# EAGLE library part ATMEGA48/88/168/328PA (library PiezoFFC)
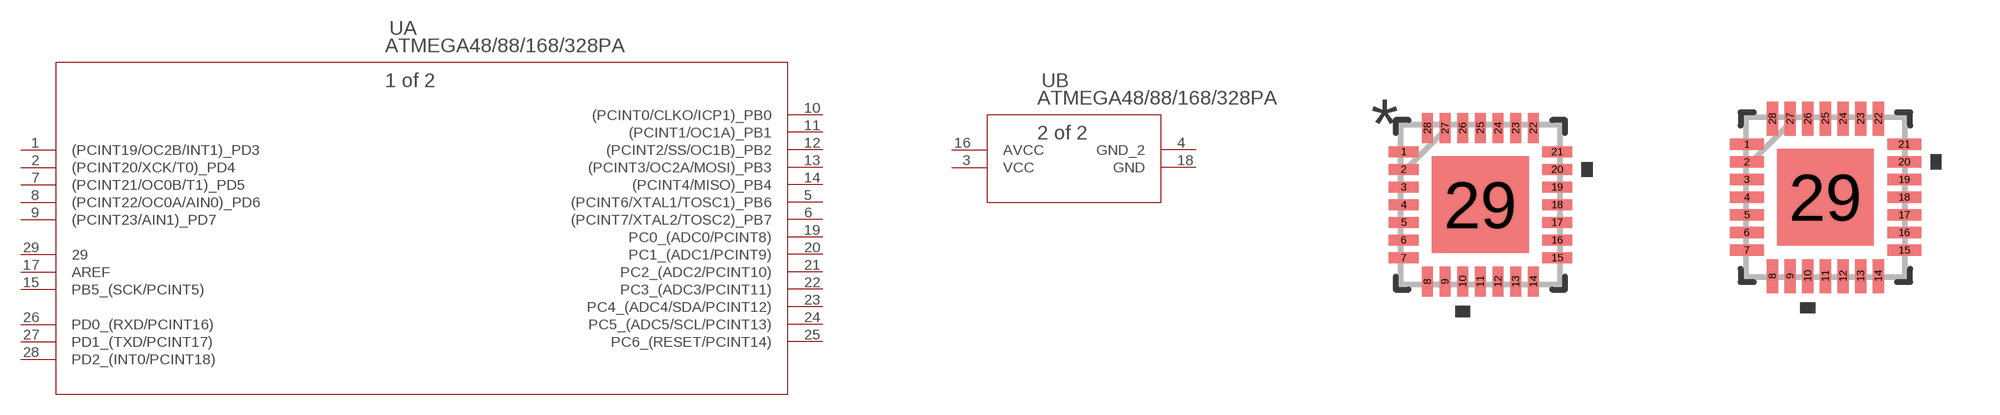
[diagram p22: symbol with the pads of 28M1; footprints 28M1, 28M1-M]

Designator prefix U; gates A=ATMEGA48PA-MMHR B=ATMEGA48PA-MMHR_A

## ATMEGA48/88/168/328PA (MANUFACTURER_PART_NUMBER: ATMEGA48PAMMHR; VENDOR: Atmel)  [28M1]
1  A:(PCINT19/OC2B/INT1)_PD3
2  A:(PCINT20/XCK/T0)_PD4
3  B:VCC  pwr
4  B:GND_2  pwr
5  A:(PCINT6/XTAL1/TOSC1)_PB6
6  A:(PCINT7/XTAL2/TOSC2)_PB7
7  A:(PCINT21/OC0B/T1)_PD5
8  A:(PCINT22/OC0A/AIN0)_PD6
9  A:(PCINT23/AIN1)_PD7
10  A:(PCINT0/CLKO/ICP1)_PB0
11  A:(PCINT1/OC1A)_PB1
12  A:(PCINT2/SS/OC1B)_PB2
13  A:(PCINT3/OC2A/MOSI)_PB3
14  A:(PCINT4/MISO)_PB4
15  A:PB5_(SCK/PCINT5)
16  B:AVCC  pwr
17  A:AREF  pas
18  B:GND  pwr
19  A:PC0_(ADC0/PCINT8)
20  A:PC1_(ADC1/PCINT9)
21  A:PC2_(ADC2/PCINT10)
22  A:PC3_(ADC3/PCINT11)
23  A:PC4_(ADC4/SDA/PCINT12)
24  A:PC5_(ADC5/SCL/PCINT13)
25  A:PC6_(RESET/PCINT14)
26  A:PD0_(RXD/PCINT16)
27  A:PD1_(TXD/PCINT17)
28  A:PD2_(INT0/PCINT18)
29  A:29  pas

## ATMEGA48/88/168/328PA28M1-M (MANUFACTURER_PART_NUMBER: ATMEGA48PAMMHR; VENDOR: Atmel)  [28M1-M]
Pads as for 28M1

## ATMEGA48/88/168/328PA28M1-L (MANUFACTURER_PART_NUMBER: ATMEGA48PAMMHR; VENDOR: Atmel)  [28M1-L]
Pads as for 28M1

## Footprint 28M1 (pad centres in mm)
smd 0.762 x 0.279: 1 -1.956,1.35; 2 -1.956,0.9; 3 -1.956,0.45; 4 -1.956,0; 5 -1.956,-0.45; 6 -1.956,-0.9; 7 -1.956,-1.35; 15 1.956,-1.35; 16 1.956,-0.9; 17 1.956,-0.45; 18 1.956,0; 19 1.956,0.45; 20 1.956,0.9; 21 1.956,1.35
smd 0.279 x 0.762: 8 -1.35,-1.956; 9 -0.9,-1.956; 10 -0.45,-1.956; 11 0,-1.956; 12 0.45,-1.956; 13 0.9,-1.956; 14 1.35,-1.956; 22 1.35,1.956; 23 0.9,1.956; 24 0.45,1.956; 25 0,1.956; 26 -0.45,1.956; 27 -0.9,1.956; 28 -1.35,1.956
smd 2.464 x 2.464: 29 0,0

## Footprint 28M1-M (pad centres in mm)
smd 0.864 x 0.279: 1 -2.007,1.35; 2 -2.007,0.9; 3 -2.007,0.45; 4 -2.007,0; 5 -2.007,-0.45; 6 -2.007,-0.9; 7 -2.007,-1.35; 15 2.007,-1.35; 16 2.007,-0.9; 17 2.007,-0.45; 18 2.007,0; 19 2.007,0.45; 20 2.007,0.9; 21 2.007,1.35
smd 0.279 x 0.864: 8 -1.35,-2.007; 9 -0.9,-2.007; 10 -0.45,-2.007; 11 0,-2.007; 12 0.45,-2.007; 13 0.9,-2.007; 14 1.35,-2.007; 22 1.35,2.007; 23 0.9,2.007; 24 0.45,2.007; 25 0,2.007; 26 -0.45,2.007; 27 -0.9,2.007; 28 -1.35,2.007
smd 2.464 x 2.464: 29 0,0

## Footprint 28M1-L (pad centres in mm)
smd 0.66 x 0.279: 1 -1.905,1.35; 2 -1.905,0.9; 3 -1.905,0.45; 4 -1.905,0; 5 -1.905,-0.45; 6 -1.905,-0.9; 7 -1.905,-1.35; 15 1.905,-1.35; 16 1.905,-0.9; 17 1.905,-0.45; 18 1.905,0; 19 1.905,0.45; 20 1.905,0.9; 21 1.905,1.35
smd 0.279 x 0.66: 8 -1.35,-1.905; 9 -0.9,-1.905; 10 -0.45,-1.905; 11 0,-1.905; 12 0.45,-1.905; 13 0.9,-1.905; 14 1.35,-1.905; 22 1.35,1.905; 23 0.9,1.905; 24 0.45,1.905; 25 0,1.905; 26 -0.45,1.905; 27 -0.9,1.905; 28 -1.35,1.905
smd 2.464 x 2.464: 29 0,0